# EAGLE library part MC10H131PG (library On Semiconductor)
Dual D Type Master-Slave Flip-Flop
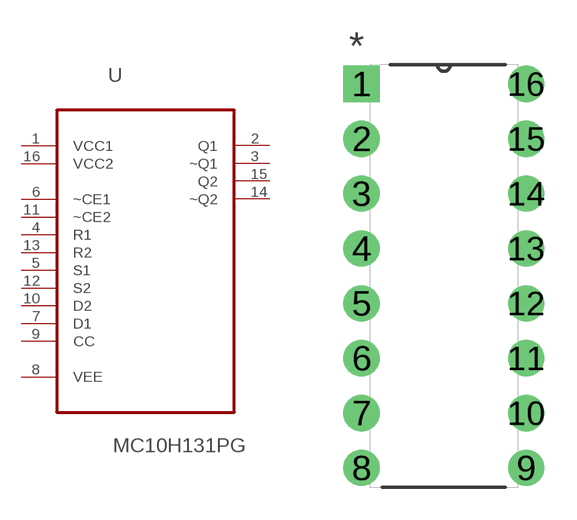
[diagram p184: symbol with the pads of DIP254P762X444-16; footprint DIP254P762X444-16]

Designator prefix U

## MC10H131PG (MPN: MC10H131PG; OC_FARNELL: 1468724; OC_NEWARK: 45J0879; PACKAGE: PDIP-16; SUPPLIER: On semiconductors)  [DIP254P762X444-16]
1  VCC1  pwr
2  Q1  out
3  ~Q1  out
4  R1  in
5  S1  in
6  ~CE1  in
7  D1  in
8  VEE  pwr
9  CC  in
10  D2  in
11  ~CE2  in
12  S2  in
13  R2  in
14  ~Q2  out
15  Q2  out
16  VCC2  pwr

## Footprint DIP254P762X444-16 (pad centres in mm)
drill 1.118 square: 1 -7.62,17.78
drill 1.118: 2 -7.62,15.24; 3 -7.62,12.7; 4 -7.62,10.16; 5 -7.62,7.62; 6 -7.62,5.08; 7 -7.62,2.54; 8 -7.62,0; 9 0,0; 10 0,2.54; 11 0,5.08; 12 0,7.62; 13 0,10.16; 14 0,12.7; 15 0,15.24; 16 0,17.78